# Altium footprint library xecanbang.PcbLib: 7 footprints
Each footprint in its own frame and in the unit in brackets; x right, y up, seen from the top. Pads: shape width x height; smd on the part's side, far side on the other; paste and mask are expansions set on the pad; w line width, h text height; cw(c..) or ccw(c..) is an arc to the next point about the centre after c.
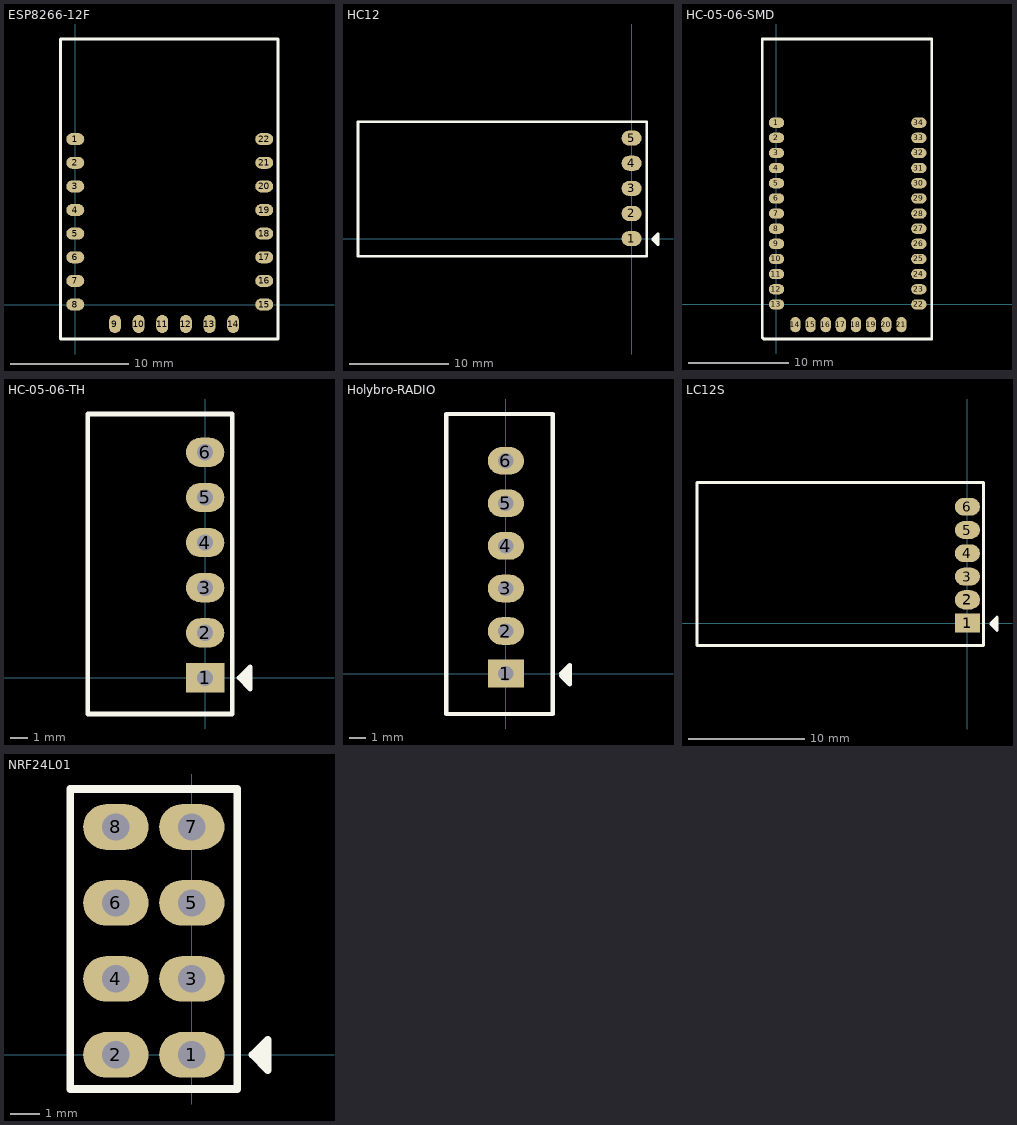
[diagram p0: the footprints below, top view; thin cyan lines are the x and y axes]

## ESP8266-12F [mil]
pads (22):
  oval 60x40 smd: 1(0,551.18) 2(0,472.44) 3(0,393.7) 4(0,314.96) 5(0,236.22) 6(0,157.48) 7(0,78.74) 8(0,0) 15(629.92,0) 16(629.92,78.74) 17(629.92,157.48) 18(629.92,236.22) 19(629.92,314.96) 20(629.92,393.7) 21(629.92,472.44) 22(629.92,551.18)
  oval 40x60 smd: 9(132.48,-65) 10(211.22,-65) 11(289.96,-65) 12(368.7,-65) 13(447.44,-65) 14(526.18,-65)
Top Overlay:
  lines w10: -50,-115 -50,885 675,885 675,-115 -50,-115
3D body "EPS8266 ESP-12F.STEP": height 104.33, standoff -1.38, extent -0.16,-67.63 630.16,877.45

## HC12 [mil]
pads (5):
  oval 80x60 smd: 1(0,0) 2(0,100) 3(0,200) 4(0,300) 5(0,400)
Top Overlay:
  lines w10: 85,0 105,20 105,-25 85,-5 100,-5 95,0 100,0 95,5 95,-15 100,-10 100,5 ; -1090,-70 -1090,465 60,465 60,-70 -1090,-70
3D body "HC-12 SI4463 WIRELESS SERIAL MODULE.STEP": height 1019.68, standoff 0, extent -1089.11,-66.81 1.34,456.81

## HC-05-06-SMD [mil]
pads (34):
  oval 60x40 smd: 1(0,708.66) 2(0,649.61) 3(0,590.55) 4(0,531.5) 5(0,472.44) 6(0,413.39) 7(0,354.33) 8(0,295.28) 9(0,236.22) 10(0,177.17) 11(0,118.11) 12(0,59.06) 13(0,0) 22(555,0) 23(555,59.06) 24(555,118.11) 25(555,177.17) 26(555,236.22) 27(555,295.28) 28(555,354.33) 29(555,413.39) 30(555,472.44) 31(555,531.5) 32(555,590.55) 33(555,649.61) 34(555,708.66)
  oval 40x60 smd: 14(73.74,-78.74) 15(132.8,-78.74) 16(191.85,-78.74) 17(250.91,-78.74) 18(309.96,-78.74) 19(369.02,-78.74) 20(428.07,-78.74) 21(487.13,-78.74)
Top Overlay:
  lines w10: -50,-135 -55,-130 -55,1035 120,1035 430,1035 491.25,1035 553.75,1035 605,1035 605,-135 -45,-135
3D body "Bluetooth HC-06_.STEP": height 92.52, standoff 0, extent 4.02,-75 555.98,1027.76

## HC-05-06-TH [mil]
pads (6):
  rect 85x65 hole 36: 1(0,0)
  oval 85x65 hole 36: 2(0,100) 3(0,200) 4(0,300) 5(0,400) 6(0,500)
Top Overlay:
  lines w10: 95,-20 95,10 90,15 90,0 ; 75,0 100,25 100,-25 75,0 ; 75,0 90,0 ; 90,0 100,10 100,0 87.5,-12.5 87.5,-2.5 90,0 ; -260,-80 60,-80 60,585 -260,585 -260,-80
3D body "HC-05.STEP": height 1478.35, standoff -198.16, extent -252.87,-64.96 5,564.96

## Holybro-RADIO [mil]
pads (6):
  rect 85x65 hole 36: 1(0,0)
  oval 85x65 hole 36: 2(0,100) 3(0,200) 4(0,300) 5(0,400) 6(0,500)
Top Overlay:
  lines w10: 130,0 150,20 150,-25 130,-5 140,-5 ; 135,0 140,-5 ; 140,-5 140,0 150,10 150,5 ; 140,-5 150,5 ; 150,-5 150,5 ; 150,-5 150,-10 145,-15 145,-10 150,-5 ; 150,-5 150,5 ; -140,-95 -140,610 110,610 110,-95 -140,-95
3D body "JST - XH - Thru (V) - 6Pin - 2.54mm.stp": height 284, standoff -118, extent -135,-92 95,592

## LC12S [mil]
pads (6):
  rect 85x65 smd: 1(0,0)
  oval 85x65 smd: 2(0,78.74)
  oval 85x60 smd: 3(0,157.48) 4(0,236.22) 5(0,314.96) 6(0,393.7)
Top Overlay:
  lines w10: 80,0 100,20 100,-25 80,-5 90,-5 100,-15 100,0 ; 85,-5 95,-5 100,0 ; 100,0 90,0 85,5 95,5 100,0 ; -915,-75 -915,475 55,475 55,-75 -915,-75
3D body "LC12S.STEP": height 78.74, standoff 0, extent -913.31,-68.08 4.02,471.29
3D body: height 78.74, standoff 0, extent 205,-580 205,-580

## NRF24L01 [mil]
pads (8):
  oval 86x60 hole 36: 1(0,0) 2(-100,0) 3(0,100) 4(-100,100) 5(0,200) 6(-100,200) 7(0,300) 8(-100,300)
Top Overlay:
  lines w10: 95,-5 95,5 90,0 80,0 ; 80,0 100,-20 100,20 80,0 ; -160,-45 -160,350 60,350 60,-45 -160,-45
3D body "NRF24l01_with_antenna.STEP": height 3660.96, standoff -224.41, extent -2828.39,-150.2 85,450.2